# EAGLE library part WS2812 (library GW-devices)
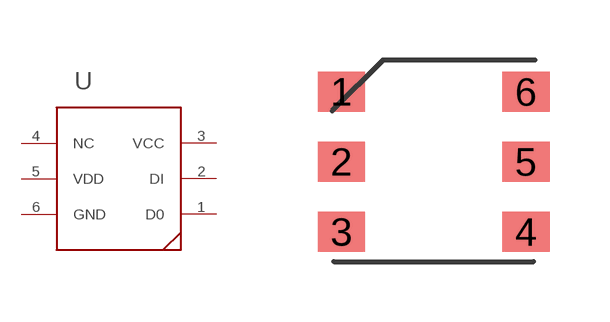
[diagram p56: symbol with the pads of PLCC-6; footprint PLCC-6]

Designator prefix -

## WS2812  [PLCC-6]
1  D0
2  DI
3  VCC
4  NC
5  VDD
6  GND

## Footprint PLCC-6 (pad centres in mm)
smd 1.18 x 1: 1 -2.31,1.75; 2 -2.31,0; 3 -2.31,-1.75; 4 2.31,-1.75; 5 2.31,0; 6 2.31,1.75